# Altium footprint library Footprints.PcbLib: 132 footprints (part 9 of 9)
Each footprint in its own frame and in the unit in brackets; x right, y up, seen from the top. Pads: shape width x height; smd on the part's side, far side on the other; paste and mask are expansions set on the pad; w line width, h text height; cw(c..) or ccw(c..) is an arc to the next point about the centre after c.
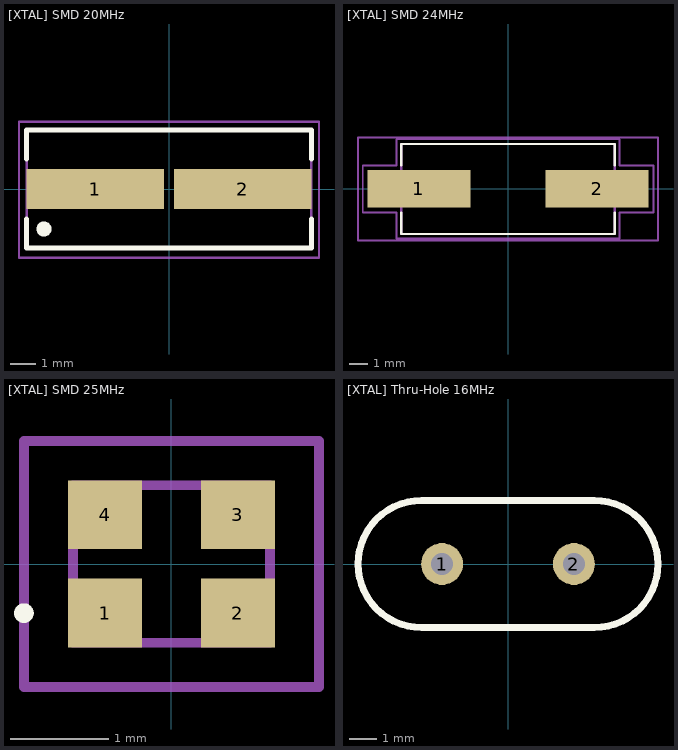
[diagram p8: the footprints below, top view; thin cyan lines are the x and y axes]

## [XTAL] SMD 20MHz [mm] "20M20P2/49SMT"
pads (2):
  rect 5.5x1.6 smd: 1(-2.95,0) 2(2.95,0)
Top Overlay:
  circle w0.3: c-5,-1.6 r0.15
  lines w0.2: -5.7,-1.2 -5.7,-2.365 5.7,-2.365 5.7,-1.2 ; -5.7,1.2 -5.7,2.365 5.7,2.365 5.7,1.2
Physical Outline:
  lines w0.1: -5.7,-2.365 5.7,-2.365 5.7,2.365 -5.7,2.365 -5.7,-2.365
Part Border:
  lines w0.1: -6,-2.75 6,-2.75 ; -6,-2.7 -6,2.7 6,2.7 6,-2.7
3D body "[XTAL] SMD 20MHz.step": height 4.2, standoff 0, extent -5.807,-2.35 5.802,2.35

## [XTAL] SMD 24MHz [mm]
pads (2):
  rect 5.5x2 smd: 1(-4.75,0) 2(4.75,0)
Top Overlay:
  lines w0.127: -5.7,-1.254 -5.7,-2.4 5.7,-2.4 5.7,-1.254 ; -5.7,1.254 -5.7,2.4 5.7,2.4 5.7,1.254
Physical Outline:
  lines w0.1: -7.75,-1.25 -7.75,1.25 -5.95,1.25 -5.95,2.65 5.95,2.65 5.95,1.25 7.75,1.25 7.75,-1.25 5.95,-1.25 5.95,-2.65 -5.95,-2.65 -5.95,-1.25 -7.75,-1.25
  lines w0.127: -5.7,-2.4 5.7,-2.4 5.7,2.4 -5.7,2.4 -5.7,-2.4
Part Border:
  lines w0.1: -8,-2.75 -8,2.75 8,2.75 8,-2.75 -8,-2.75
3D body "step_temp.STEP": height 3.2, standoff 0, extent -6.6,-2.4 6.6,2.4

## [XTAL] SMD 25MHz [mm] "XRCGB25M000F3M00R0"
pads (4):
  rect 0.75x0.7 smd: 1(-0.675,-0.5) 2(0.675,-0.5) 3(0.675,0.5) 4(-0.675,0.5)
Top Overlay:
  lines w0.1: -1.55,-0.5 cw(c-1.5,-0.5) -1.45,-0.5 cw(c-1.5,-0.5) -1.55,-0.5
Physical Outline:
  lines w0.1: -1,-0.8 1,-0.8 1,0.8 -1,0.8 -1,-0.8
Part Border:
  lines w0.1: -1.5,-1.25 1.5,-1.25 1.5,1.25 -1.5,1.25 -1.5,-1.25
3D body "XRCGB25M000F3M00R0.stp": height 0.7, standoff 0, extent -1,-0.8 1,0.8

## [XTAL] Thru-Hole 16MHz [mm] "Part #: 2780-HC49US-FF3F18-16.000MHZ-ND"
pads (2):
  round 1.55 hole 0.8: 1(-2.44,0) 2(2.44,0)
Top Overlay:
  lines w0.254: -3.2,-2.35 cw(c-3.2,0) -3.2,2.35 3.2,2.35 cw(c3.2,0) 3.2,-2.35 -3.2,-2.35
3D body "Crystal Oscillator.STEP": height 3.8, standoff -13.03, extent -5.75,-2.5 5.75,2.5